# Altium footprint library PCB2.PcbLib: 98 footprints (part 3 of 7)
Each footprint in its own frame and in the unit in brackets; x right, y up, seen from the top. Pads: shape width x height; smd on the part's side, far side on the other; paste and mask are expansions set on the pad; w line width, h text height; cw(c..) or ccw(c..) is an arc to the next point about the centre after c.
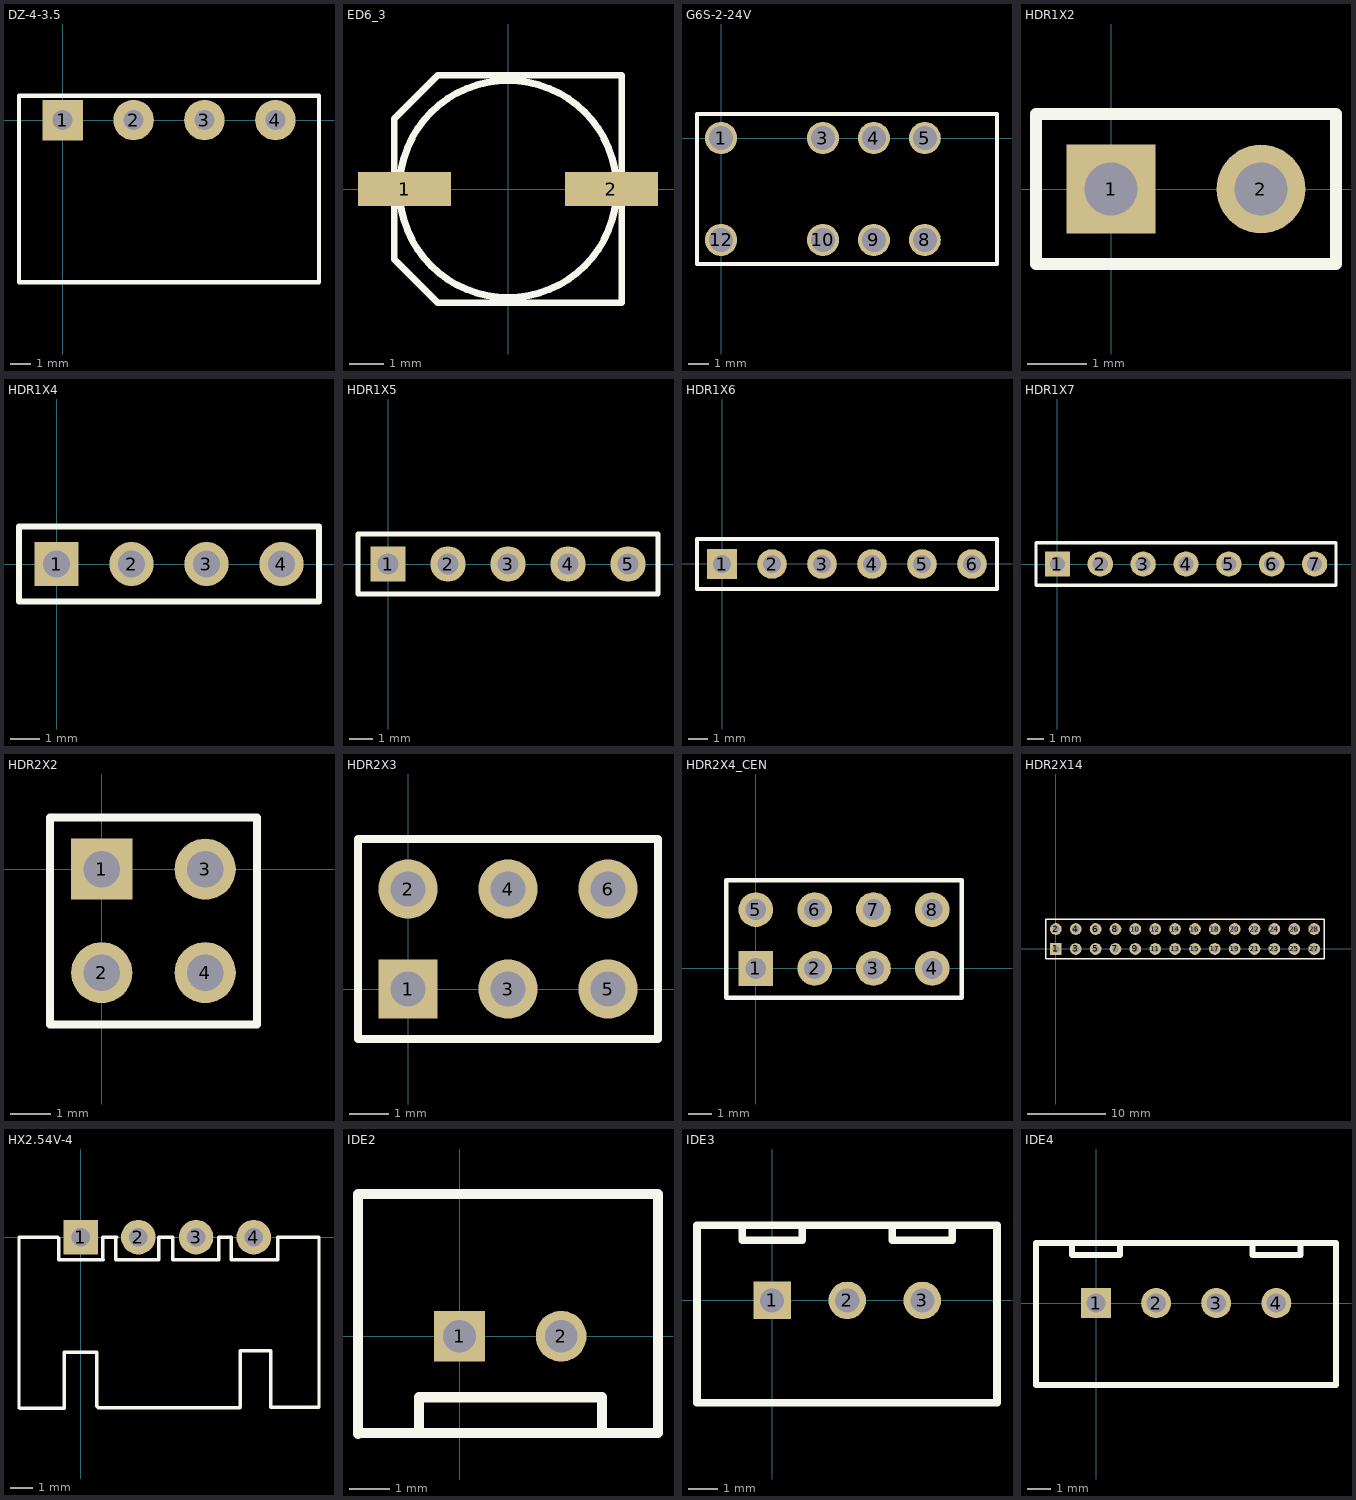
[diagram p2: the footprints below, top view; thin cyan lines are the x and y axes]

## DZ-4-3.5 [mm]
pads (4):
  rect 2x2 hole 1: 1(0,0)
  round 2 hole 1: 2(3.5,0) 3(7,0) 4(10.5,0)
Top Overlay:
  lines w0.2: 5.65,1.2 3.5,1.2 ; 3.5,1.2 0,1.2 -2.15,1.2 -2.15,-8 5.65,-8 9.15,-8 12.65,-8 12.65,1.2 10.5,1.2 7,1.2 ; 3.5,1.2 7,1.2 ; 7,1.2 9.15,1.2 7,1.2

## ED6_3 [mm]
height 5.5
pads (2):
  rect 2.7x1 smd: 1(-3,0) 2(3,0)
Top Overlay:
  circle w0.2: c0,0 r3.15
  lines w0.2: -3.3,2.032 -3.3,-2.032 -2.032,-3.3 3.3,-3.3 3.3,3.3 -2.032,3.3 -3.287,2.045
3D body "SL-E.step": height 5.2, standoff 0, extent -3.5,-3.302 3.5,3.298

## G6S-2-24V [mm]
pads (8):
  round 1.6 hole 1.2: 1(0,0) 3(5.08,0) 4(7.62,0) 5(10.16,0) 8(10.16,-5.08) 9(7.62,-5.08) 10(5.08,-5.08) 12(0,-5.08)
Top Overlay:
  lines w0.2: -1.2,-6.28 -1.2,0 -1.2,1.2 0,1.2 11.36,1.2 13.76,1.2 13.76,0 13.76,-6.28 11.36,-6.28 10.16,-6.28 -1.2,-6.28

## HDR1X2 [mm] "Connector; Header; 2 Position"
height 1.75
pads (2):
  rect 1.5x1.5 hole 0.9: 1(0,0)
  round 1.5 hole 0.9: 2(2.54,0)
Top Overlay:
  lines w0.2: -1.27,-1.27 -1.27,1.27 3.81,1.27 3.81,-1.27 -1.27,-1.27

## HDR1X4 [mm] "Connector; Header; 5 Position"
height 1.75
pads (4):
  rect 1.5x1.5 hole 0.9: 1(0,0)
  round 1.5 hole 0.9: 2(2.54,0) 3(5.08,0) 4(7.62,0)
Top Overlay:
  lines w0.2: -1.27,-1.27 -1.27,1.27 8.89,1.27 8.89,-1.27 -1.27,-1.27

## HDR1X5 [mm] "Connector; Header; 5 Position"
height 1.75
pads (5):
  rect 1.5x1.5 hole 0.9: 1(0,0)
  round 1.5 hole 0.9: 2(2.54,0) 3(5.08,0) 4(7.62,0) 5(10.16,0)
Top Overlay:
  lines w0.2: -1.27,-1.27 -1.27,1.27 11.43,1.27 11.43,-1.27 -1.27,-1.27

## HDR1X6 [mm] "Connector; Header; 6 Position"
pads (6):
  rect 1.5x1.5 hole 0.9: 1(0,0)
  round 1.5 hole 0.9: 2(2.54,0) 3(5.08,0) 4(7.62,0) 5(10.16,0) 6(12.7,0)
Top Overlay:
  lines w0.2: -1.27,-1.27 13.97,-1.27 13.97,1.27 -1.27,1.27 -1.27,-1.27

## HDR1X7 [mm] "Connector; Header; 7 Position"
height 0.254
pads (7):
  rect 1.5x1.5 hole 0.9: 1(0,0)
  round 1.5 hole 0.9: 2(2.54,0) 3(5.08,0) 4(7.62,0) 5(10.16,0) 6(12.7,0) 7(15.24,0)
Top Overlay:
  lines w0.2: -1.27,-1.27 -1.27,1.27 16.51,1.27 16.51,-1.27 -1.27,-1.27
3D body "1001-7.STEP": height 8.54, standoff -3, extent -1.27,-1.27 16.51,1.27

## HDR2X2 [mm] "Connector; Header; 2x2 Position"
height 1.75
pads (4):
  rect 1.5x1.5 hole 0.9: 1(0,0)
  round 1.5 hole 0.9: 2(0,-2.54) 3(2.54,0) 4(2.54,-2.54)
Top Overlay:
  lines w0.2: -1.27,-3.81 3.81,-3.81 3.81,1.27 -1.27,1.27 -1.27,-3.81

## HDR2X3 [mm]
pads (6):
  rect 1.5x1.5 hole 0.9: 1(0,0)
  round 1.5 hole 0.9: 2(0,2.54) 3(2.54,0) 4(2.54,2.54) 5(5.08,0) 6(5.08,2.54)
Top Overlay:
  lines w0.2: 1.482,-1.27 6.35,-1.27 ; 6.35,-1.27 6.35,3.81 -1.27,3.81 -1.27,-1.27 6.35,-1.27

## HDR2X4_CEN [mm] "Connector; Header; 4x2 Position"
pads (8):
  rect 1.5x1.5 hole 0.9: 1(0,0)
  round 1.5 hole 0.9: 2(2.54,0) 3(5.08,0) 4(7.62,0) 5(0,2.54) 6(2.54,2.54) 7(5.08,2.54) 8(7.62,2.54)
Top Overlay:
  lines w0.2: -1.27,-1.27 8.89,-1.27 8.89,3.81 -1.27,3.81 -1.27,-1.27

## HDR2X14 [mm] "Connector; Header; 14x2 Position"
height 1.75
pads (28):
  rect 1.5x1.5 hole 0.9: 1(0,0)
  round 1.5 hole 0.9: 2(0,2.54) 3(2.54,0) 4(2.54,2.54) 5(5.08,0) 6(5.08,2.54) 7(7.62,0) 8(7.62,2.54) 9(10.16,0) 10(10.16,2.54) 11(12.7,0) 12(12.7,2.54) 13(15.24,0) 14(15.24,2.54) 15(17.78,0) 16(17.78,2.54) 17(20.32,0) 18(20.32,2.54) 19(22.86,0) 20(22.86,2.54) 21(25.4,0) 22(25.4,2.54) 23(27.94,0) 24(27.94,2.54) 25(30.48,0) 26(30.48,2.54) 27(33.02,0) 28(33.02,2.54)
Top Overlay:
  lines w0.2: -1.27,-1.27 34.29,-1.27 34.29,3.81 -1.27,3.81 -1.27,-1.27

## HX2.54V-4 [mil]
pads (4):
  rect 60x60 hole 32: 1(0,0)
  round 60 hole 32: 2(100,0) 3(200,0) 4(300,0)
Top Overlay:
  lines w6.06: 26.14,-199.13 -28.11,-199.13 -28.11,-296.38 -105.91,-296.38 -106.93,-295.35 -106.93,0 -40,0 -38.35,-1.65 -38.35,-38.66 -37.8,-39.21 39.21,-39.21 38.66,-38.66 38.66,0 ; 28.19,-199.13 28.19,-293.31 30.24,-295.35 275.91,-295.35 276.93,-294.33 276.93,-198.11 ; 40,0 62.2,0 ; 61.18,0 61.18,-39.45 134.65,-39.45 135.2,-38.9 135.2,0 ; 135.67,0 159.21,0 ; 159.76,-39.21 159.76,0 ; 160.55,-39.21 238.82,-39.21 239.06,-38.98 239.06,0 260.55,0 ; 261.1,0 261.1,-39.45 341.97,-39.45 ; 276.93,-197.09 329.13,-197.09 329.61,-197.56 329.61,-294.88 413.07,-294.88 413.07,0 343.54,0 ; 341.97,-38.43 341.97,0

## IDE2 [mm]
pads (2):
  rect 1.27x1.27 hole 0.82: 1(0,0)
  round 1.27 hole 0.82: 2(2.54,0)
Top Overlay:
  lines w0.254: -1.016,-2.42 -1.016,-1.524 3.556,-1.524 3.556,-2.42 ; -2.54,-2.444 -2.54,3.556 4.96,3.556 4.96,-2.42 -2.516,-2.42 -2.54,-2.444

## IDE3 [mil]
pads (3):
  rect 50x50 hole 32: 1(0,0)
  round 50 hole 32: 2(100,0) 3(200,0)
Top Overlay:
  lines w10: -40,100 -40,80 40,80 40,100 ; 160,100 160,80 240,80 240,100 ; -100,-136.22 -100,100 299.37,100 299.37,-136.22 -100,-136.22

## IDE4 [mil]
pads (4):
  rect 50x50 hole 32: 1(0,0)
  round 50 hole 32: 2(100,0) 3(200,0) 4(300,0)
Top Overlay:
  lines w10: -40,100 -40,80 40,80 40,100 ; 260,100 -100,100 -100,-136.22 299.37,-136.22 399.37,-136.22 399.37,100 340,100 ; 260,100 260,80 340,80 340,100 ; 260,100 340,100